# EAGLE library part MAXBOTICS_RANGE_FINDER (library AHNS10)
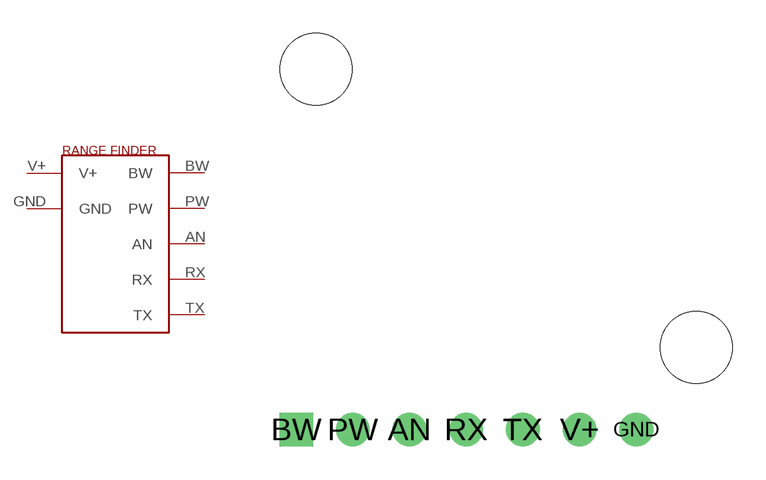
[diagram p1: symbol with the pads of MAXBOTCIS_RANGE_FINDER; footprint MAXBOTCIS_RANGE_FINDER]

Designator prefix -

## MAXBOTICS_RANGE_FINDER  [MAXBOTCIS_RANGE_FINDER]
AN  AN
BW  BW
GND  GND
PW  PW
RX  RX
TX  TX
V+  V+

## Footprint MAXBOTCIS_RANGE_FINDER (pad centres in mm)
drill 1 round: AN -3.81,-8.89; GND 6.35,-8.89; PW -6.35,-8.89; RX -1.27,-8.89; TX 1.27,-8.89; V+ 3.81,-8.89
drill 1 square: BW -8.877,-8.89
hole 3.2 at -7.988,7.239
hole 3.2 at 9.03,-5.22